# Altium schematic symbol library Shun.SchLib: 2 symbols
Pins are listed as number, name and electrical type; pins without a type are passive.

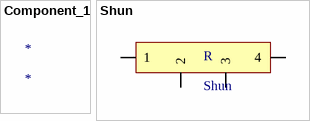
[diagram p0: symbols Component_1 to Shun]

## Component_1
designator *

## Shun
designator R
pins: 1, 2, 3, 4